# Altium schematic symbol library Semi Conductor.SchLib: 157 symbols (part 2 of 2)
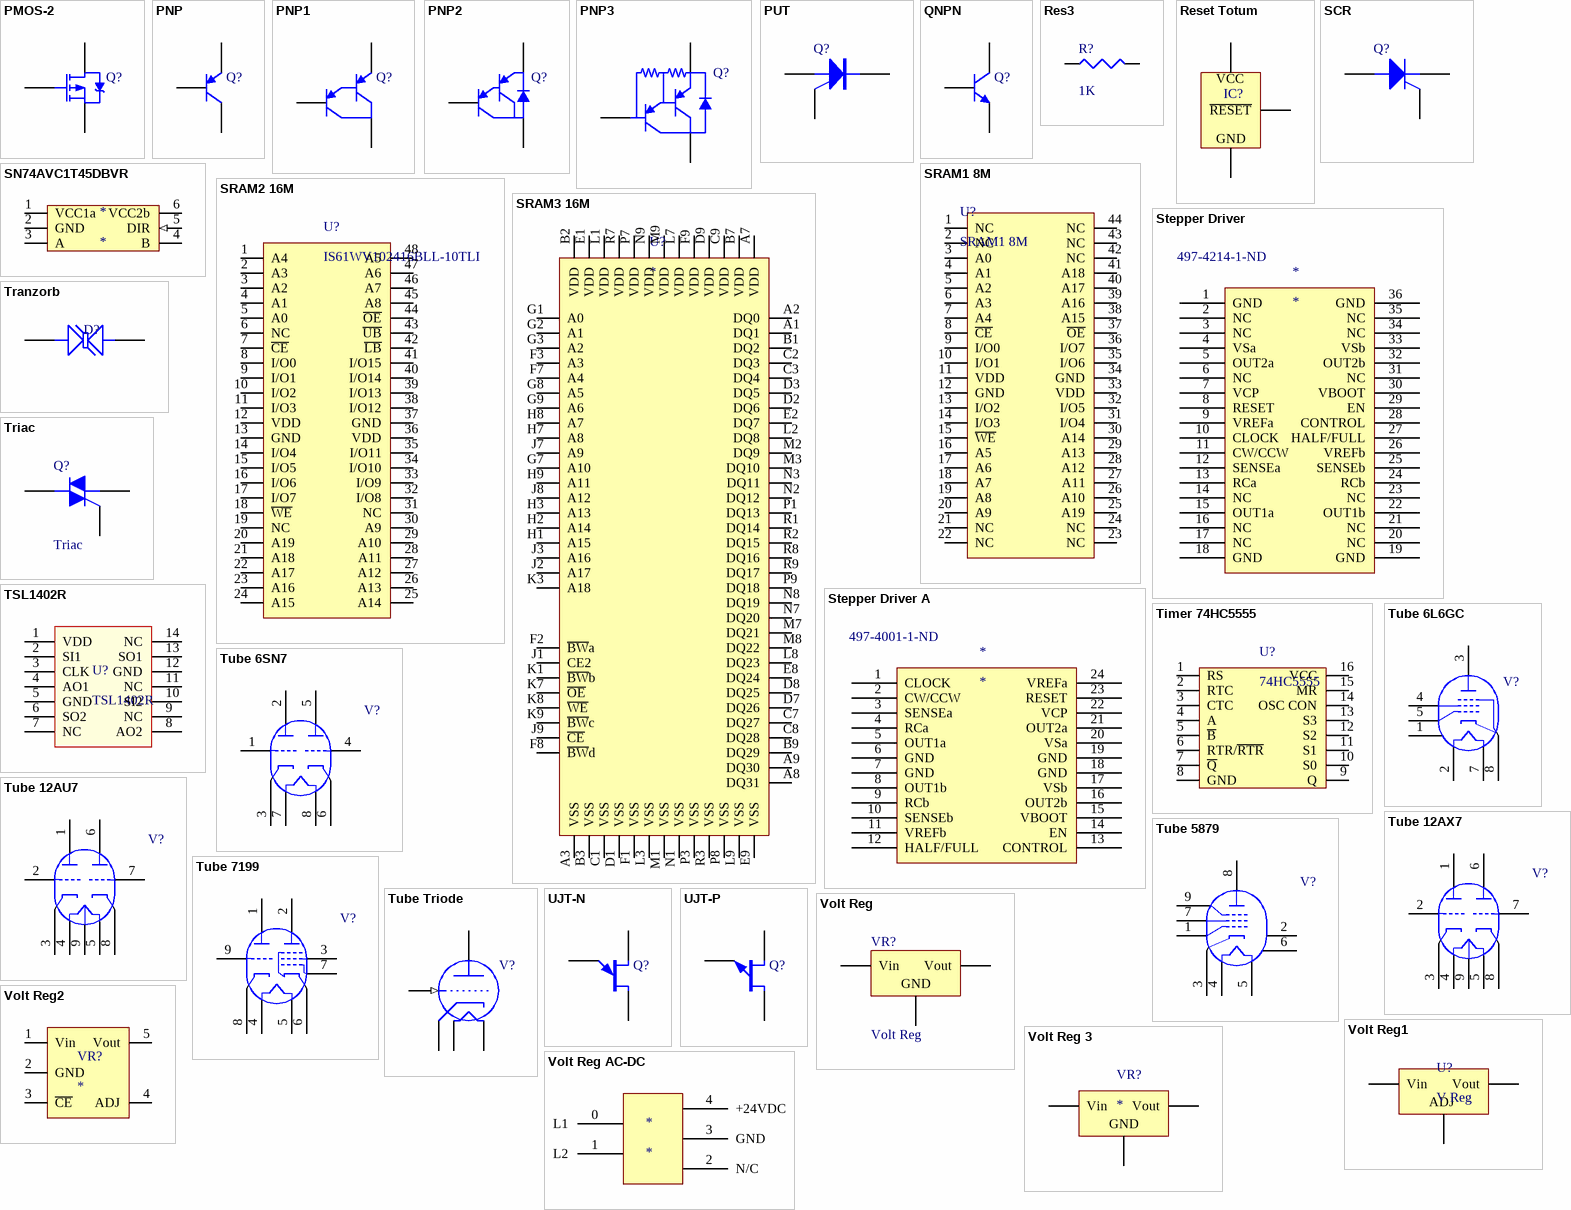
[diagram p5: symbols PMOS-2 to Volt Reg AC-DC]

## SRAM1 8M
designator U?
1MX8 Static RAM, 8BIT DATA
pins: 1 NC, 2 NC, 3 A0, 4 A1, 5 A2, 6 A3, 7 A4, 8 ~{CE}, 9 I/O0, 10 I/O1, 11 VDD, 12 GND, 13 I/O2, 14 I/O3, 15 ~{WE}, 16 A5, 17 A6, 18 A7, 19 A8, 20 A9, 21 NC, 22 NC, 23 NC, 24 NC, 25 A19, 26 A10, 27 A11, 28 A12, 29 A13, 30 A14, 31 I/O4, 32 I/O5, 33 VDD, 34 GND, 35 I/O6, 36 I/O7, 37 ~{OE}, 38 A15, 39 A16, 40 A17, 41 A18, 42 NC, 43 NC, 44 NC

## SRAM2 16M
designator U?, comment IS61WV102416BLL-10TLI
1MX16 Static RAM, 16BIT DATA
footprint TSOP-48
pins: 1 A4, 2 A3, 3 A2, 4 A1, 5 A0, 6 NC, 7 ~{CE}, 8 I/O0, 9 I/O1, 10 I/O2, 11 I/O3, 12 VDD, 13 GND, 14 I/O4, 15 I/O5, 16 I/O6, 17 I/O7, 18 ~{WE}, 19 NC, 20 A19, 21 A18, 22 A17, 23 A16, 24 A15, 25 A14, 26 A13, 27 A12, 28 A11, 29 A10, 30 A9, 31 NC, 32 I/O8, 33 I/O9, 34 I/O10, 35 I/O11, 36 VDD, 37 GND, 38 I/O12, 39 I/O13, 40 I/O14, 41 I/O15, 42 ~{LB}, 43 ~{UB}, 44 ~{OE}, 45 A8, 46 A7, 47 A6, 48 A5
1 alternate drawing of the same symbol

## SRAM3 16M
designator U?
512K x 32 Static RAM, 32Bit Data; Manufacturer: ISSI, Integrated Silicon Solution Inc; ManufacturerPN: IS61WV51232BLL-10BLI; Help: http://www.issi.com/pdf/61-64WV51232Axx-Bxx.pdf; Supplier 1: Digikey; Supplier Part Number 1: IS61WV51232BLL-10BLI-ND
footprint BGA90C80P15X9_1300X800X350 (BGA, 90-Leads, Body 13.0x8.0mm,  Pitch 0.80mm)
pins: A1 DQ1, A2 DQ0, A3 VSS, A7 VDD, A8 DQ31, A9 DQ30, B1 DQ2, B2 VDD, B3 VSS, B7 VDD, B9 DQ29, C1 VSS, C2 DQ3, C3 DQ4, C7 DQ27, C8 DQ28, C9 VDD, D1 VSS, D2 DQ6, D3 DQ5, D7 DQ26, D8 DQ25, D9 VDD, E1 VDD, E2 DQ7, E8 DQ24, E9 VSS, F1 VSS, F2 ~{BW}a, F3 A3, F7 A4, F8 ~{BW}d, F9 VDD, G1 A0, G2 A1, G3 A2, G7 A10, G8 A5, G9 A6, H1 A15, H2 A14, H3 A13, H7 A8, H8 A7, H9 A11, J1 CE2, J2 A17, J3 A16, J7 A9, J8 A12, J9 ~{CE}, K1 ~{BW}b, K3 A18, K7 ~{OE}, K8 ~{WE}, K9 ~{BW}c, L1 VDD, L2 DQ8, L3 VSS, L7 VDD, L8 DQ23, L9 VSS, M1 VSS, M2 DQ9, M3 DQ10, M7 DQ21, M8 DQ22, M9 VDD, N1 VSS, N2 DQ12, N3 DQ11, N7 DQ20, N8 DQ19, N9 VDD, P1 DQ13, P3 VSS, P7 VDD, P8 VSS, P9 DQ18, R1 DQ14, R2 DQ15, R3 VSS, R7 VDD, R8 DQ16, R9 DQ17
1 alternate drawing of the same symbol

## Stepper Driver
designator *  Supplier Part Number 1: 497-4214-1-ND
Supplier 1: Digi-Key
footprint 36-PowerSOIC (Motor Driver)
pins: 1 GND, 2 NC, 3 NC, 4 VSa, 5 OUT2a, 6 NC, 7 VCP, 8 RESET, 9 VREFa, 10 CLOCK, 11 CW/CCW, 12 SENSEa, 13 RCa, 14 NC, 15 OUT1a, 16 NC, 17 NC, 18 GND, 19 GND, 20 NC, 21 NC, 22 OUT1b, 23 NC, 24 RCb, 25 SENSEb, 26 VREFb, 27 HALF/FULL, 28 CONTROL, 29 EN, 30 VBOOT, 31 NC, 32 OUT2b, 33 VSb, 34 NC, 35 NC, 36 GND

## Stepper Driver A
designator *  Supplier Part Number 1: 497-4001-1-ND
Supplier 1: Digi-Key
footprint SO24
pins: 1 CLOCK, 2 CW/CCW, 3 SENSEa, 4 RCa, 5 OUT1a, 6 GND, 7 GND, 8 OUT1b, 9 RCb, 10 SENSEb, 11 VREFb, 12 HALF/FULL, 13 CONTROL, 14 EN, 15 VBOOT, 16 OUT2b, 17 VSb, 18 GND, 19 GND, 20 VSa, 21 OUT2a, 22 VCP, 23 RESET, 24 VREFa

## Timer 74HC5555
designator U?, comment 74HC5555
IC OSC TIMER W/OSC 89MHZ 16SOIC
footprint SO-16
pins: 1 RS, 2 RTC, 3 CTC, 4 A, 5 ~{B}, 6 RTR/~{RTR}, 7 ~{Q}, 8 GND, 9 Q, 10 S0, 11 S1, 12 S2, 13 S3, 14 OSC CON, 15 MR, 16 VCC
1 alternate drawing of the same symbol

## Tranzorb
designator D?
Tranzorb
footprint DO-7 (Diode, Axial; Body 7 x 2.7 mm (LxDia. max), Lead Dia. 0.53 mm (max))
pins: 1 A, 2 K

## Triac
designator Q?
Silicon Bidirectional Triode Thyristor; Note: Pin 2 is electrically connected to Pin 4 (TAB); Code_JEDEC: TO-251-AA
simulation model MAC15A8 (Spice Subcircuit)
footprint D2PAK
pins: 1 M1, 2 M2, 3 G

## TSL1402R
designator U?
SENSOR ARRAY 256X1
footprint DIP14 Socket
pins: 1 VDD, 2 SI1, 3 CLK, 4 AO1, 5 GND, 6 SO2, 7 NC, 8 AO2, 9 NC, 10 SI2, 11 NC, 12 GND, 13 SO1, 14 NC
1 alternate drawing of the same symbol

## Tube 6L6GC
designator V?
Beam Power Pentode; Note: Pin 6 is omitted from the tube package, Pin 1 is Not Connected
footprint VTUBE-7 (Beam Power Pentode; 7 Leads)
simulation model 6L6GC (Spice Subcircuit)
pins: 1 NC, 2 H, 3 PT, 4 GT2, 5 GT1, 7 H, 8 G3, KT

## Tube 6SN7
designator V?
Medium Mu Dual Triode
footprint VTUBE-8 (Medium Mu Dual Triode; 8 Leads)
simulation model 6SN7 (Spice Subcircuit)
pins: 1 GT1, 2 PT1, 3 KT1, 4 GT2, 5 PT2, 6 KT2, 7 H, 8 H

## Tube 12AU7
designator V?
Medium Mu Dual Triode
footprint VTUBE-9 (Medium Mu Dual Triode; 9 Leads)
simulation model 12AU7 (Spice Subcircuit)
pins: 1 PT1, 2 GT1, 3 KT1, 4 H, 5 H, 6 PT2, 7 GT2, 8 KT2, 9 HM

## Tube 12AX7
designator V?
High Mu Dual Triode
footprint VTUBE-9 (High Mu Dual Triode; 9 Leads)
simulation model 12AX7 (Spice Subcircuit)
pins: 1 PT1, 2 GT1, 3 KT1, 4 H, 5 H, 6 PT2, 7 GT2, 8 KT2, 9 HM

## Tube 5879
designator V?
Sharp Cutoff Pentode; Note: Pins 2 and 6 are not connected.
footprint VTUBE-9 (Sharp Cutoff Pentode; 9 Leads)
pins: 1 GT1, 2 NC, 3 KT, 4 H, 5 H, 6 NC, 7 GT2, 8 PT, 9 GT3

## Tube 7199
designator V?
Medium Mu Triode and Sharp Cutoff Pentode
footprint VTUBE-9 (Medium Mu Triode and Sharp Cutoff Pentode; 9 Leads)
simulation model 7199 (Spice Subcircuit)
pins: 1 PT1, 2 PT2, 3 GT2, 4 H, 5 H, 6 KT2, 7 GT3, 8 KT1, 9 GT1

## Tube Triode
designator V?
Thyratron
footprint VTUBE-5 (Thyratron; 5 Leads)
pins: 1 GRID (in), 2 PLATE, 3 CATHODE, 4 FILAMENT1, 5 FILAMENT2

## UJT-N
designator Q?
Unijunction Transistor with N-Type Base; Code_JEDEC: TO-205-AF
footprint TO-39 (Can; 3 Leads; Pin Circle Dia. 5.08 mm; Lead Dia. 0.48 mm (max))
simulation model NUJT (Spice Subcircuit)
pins: 1 E, 2 B1, 3 B2

## UJT-P
designator Q?
Unijunction Transistor with P-Type Base; Code_JEDEC: TO-205-AF
footprint TO-205AF (Can; 3 Leads; Pin Circle Dia. 5.08 mm; Lead Dia. 0.53 mm (max))
pins: 1 E, 2 B1, 3 B2

## Volt Reg
designator VR?
V.Reg, General 1
footprint D2PAK (D2-PAK/TO-263-AB; 3 Leads (1 Cropped); Body 15.5 (inc. leads) x 10.5 mm (LxW max))
footprint SOT223
footprint SIP-R-785
pins: 1 Vin, 2 GND, 3 Vout

## Volt Reg1
designator U?, comment V Reg
footprint SOT223
pins: 1 Adj, 2 Vout, 3 Vin
text: ADJ

## Volt Reg2
designator VR?
V.Reg, General 2
footprint SOT23-5AM (SOT23, 5-Leads, Body 2.9x1.7mm, Pitch 0.95mm, Lead Span 2.8mm, IPC Low Density)
pins: 1 Vin, 2 GND, 3 ~{CE}, 4 ADJ, 5 Vout

## Volt Reg 3
designator VR?
Generic LDO V Reg
footprint SOT-23R
pins: 1 GND, 2 Vout, 3 Vin

## Volt Reg AC-DC
designator *
footprint Brick 01
pins: 0 L1, 1 L2, 2 N/C, 3 GND, 4 +24VDC